# EAGLE library part PRESSURE-BMP180 (library Seeed-OPL-sensor)
314030004
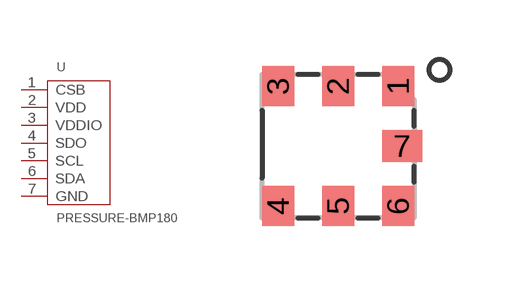
[diagram p11: symbol with the pads of LGA7-1.5-3.8X3.6MM; footprint LGA7-1.5-3.8X3.6MM]

Designator prefix U

## PRESSURE-BMP180  [LGA7-1.5-3.8X3.6MM]
1  CSB
2  VDD
3  VDDIO
4  SDO
5  SCL
6  SDA
7  GND

## Footprint LGA7-1.5-3.8X3.6MM (pad centres in mm)
smd 0.8 x 1: 1 1.5,1.5; 2 0,1.5; 3 -1.5,1.5; 4 -1.5,-1.5; 5 0,-1.5; 6 1.5,-1.5
smd 1 x 0.8: 7 1.6,0